# Altium footprint library 3362P.PcbLib: 1 footprints
Each footprint in its own frame and in the unit in brackets; x right, y up, seen from the top. Pads: shape width x height; smd on the part's side, far side on the other; paste and mask are expansions set on the pad; w line width, h text height; cw(c..) or ccw(c..) is an arc to the next point about the centre after c.
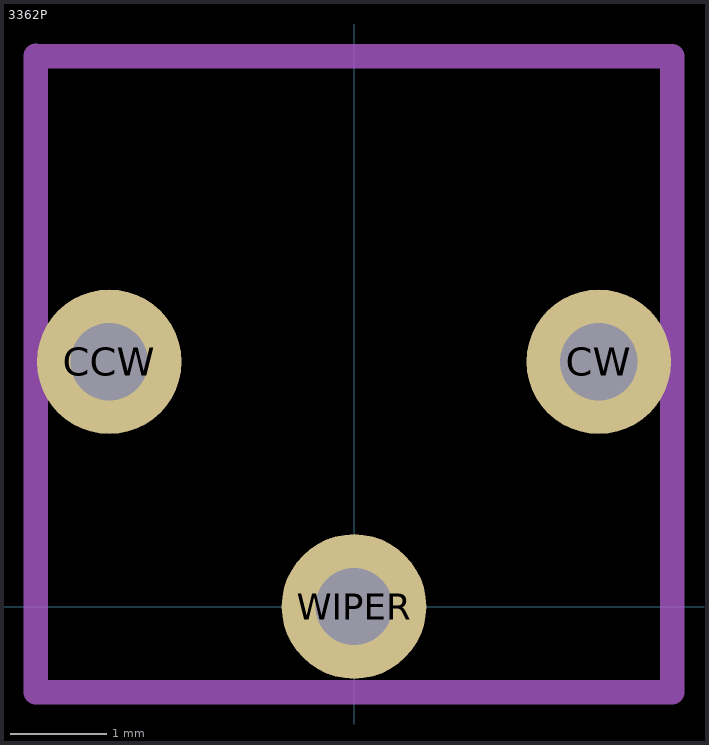
[diagram p0: the footprint, top view; thin cyan lines are the x and y axes]

## 3362P [mm]
pads (3):
  round 1.5 hole 0.8: CCW(-2.54,2.54) CW(2.54,2.54) WIPER(0,0)
Mechanical 13:
  lines w0.254: -3.302,5.715 -3.302,-0.889 3.302,-0.889 3.302,5.713 -3.3,5.713
  text ".Designator" at -2.921,1.143 h2.5
3D body: height 4.4, standoff -3, extent -3.3,-0.887 3.3,5.713